# Altium schematic symbol library buck4.SchLib: 11 symbols
Pins are listed as number, name and electrical type; pins without a type are passive.

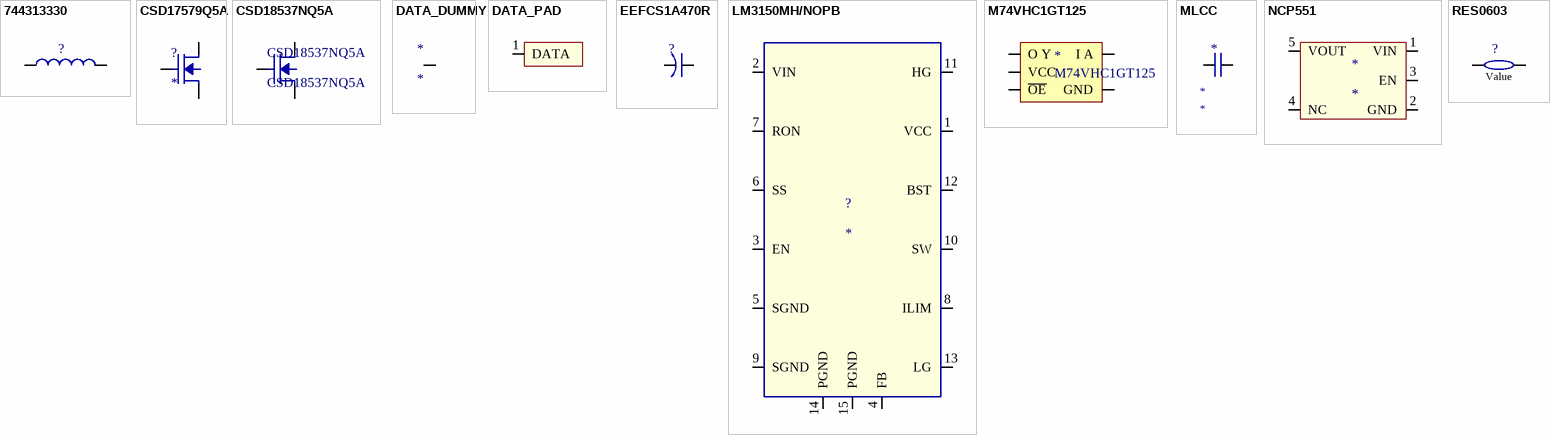
[diagram p0: symbols 744313330 to RES0603]

## 744313330
designator ?  (value not drawn)
Inductor; MPN: 744313330; Vendor: Wurth Elektronik; RefDes: RefDes; TYPE: TYPE; Value: Value
footprint WE-HCI_1335
pins: 1, 2

## CSD17579Q5A
designator ?
N Channel MOSFET; MPN: CSD17579Q5A; VdsMax: 30.0V; IdsMax: 14.0A; Rdsonat10V: 0.0084Ohm; QgTyp: 5.4nC; Vendor: Texas Instruments; Datasheet_URL: http://www.ti.com/lit/ds/symlink/CSD17579Q5A.pdf; Quantity: 1; RefDes: RefDes; TYPE: TYPE; Value: Value
footprint TRANS_NexFET_Q5A
pins: D Drain, G Gate, S Source

## CSD18537NQ5A
designator CSD18537NQ5A
N Channel MOSFET; VdsMax: 60.0; IdsMax: 50.0; Rdson45: 0.014559; QgTyp: 14.0; Vendor: Texas Instruments; Datasheet_URL: http://www.ti.com/lit/ds/symlink/csd18537nq5a.pdf; Quantity: 1; MPN: CSD18537NQ5A; RefDes: RefDes; TYPE: TYPE; Value: Value
footprint TRANS_NexFET_Q5A
pins: D Drain, G Gate, S Source

## DATA_DUMMY
designator *  (no BOM)
pins: 3

## DATA_PAD
designator *  (value not drawn)  (no BOM)
footprint DATA_PAD
pins: 1 DATA

## EEFCS1A470R
designator ?  (value not drawn)
Electrolytic Capacitor; MPN: EEFCS1A470R; Voltage: 6.3V; Vendor: Panasonic; TYPE: Polymer; Value: Value
footprint CAPMP7343X11L (Molded Capacitor, 2-Leads, Body 7.30x4.30mm, IPC High Density)
pins: 1 +, 2 -

## LM3150MH/NOPB
designator ?
Buck controller; MPN: LM3150MH/NOPB; Vendor: Texas Instruments; RefDes: RefDes; TYPE: TYPE; Value: Value
footprint MXA14A
pins: 1 VCC, 2 VIN, 3 EN, 4 FB, 5 SGND, 6 SS, 7 RON, 8 ILIM, 9 SGND, 10 SW, 11 HG, 12 BST, 13 LG, 14 PGND, 15 PGND "PAD"

## M74VHC1GT125
designator *
Level shifter non inverting
footprint SC70-5 (SOT23, 5-Leads, Body 2.00x2.10mm, Pitch 0.65mm)
footprint SOT65P210X100-5L (SOT23, 5-Leads, Body 2.00x2.10mm, Pitch 0.65mm, IPC High Density)
pins: 1 ~{OE}, 2 I A, 3 GND, 4 O Y, 5 VCC

## MLCC
designator *
Multilayer Ceramic Capacitor; Vendor: *; Voltage: *; Value: *
footprint CAPC1608X08L (Chip Capacitor, 2-Leads, Body 1.60x0.80mm, IPC High Density)
footprint CAPC2012X12L (Chip Capacitor, 2-Leads, Body 2.00x1.20mm, IPC High Density)
footprint CAPC3216X12L (Chip Capacitor, 2-Leads, Body 3.20x1.60mm, IPC High Density)
footprint CAPC3225X25L (Chip Capacitor, 2-Leads, Body 3.20x2.50mm, IPC High Density)
pins: 1, 2

## NCP551
designator *
footprint SOT95P260X90-5L (SOT23, 5-Leads, Body 3.00x2.60mm, Pitch 0.95mm, IPC High Density)
pins: 1 VIN (power), 2 GND (power), 3 EN (power), 4 NC, 5 VOUT

## RES0603
designator ?  (value not drawn)
Chip Resistor; Value: Value
footprint RESC1608X03L (Chip Resistor, 2-Leads, Body 1.60x0.80mm, IPC High Density)
pins: 1, 2